# EAGLE library part SMD-TOGGLE-SWITCH-2CH(2X3P-7X3.5MM) (library Seeed-Switch)
311030005
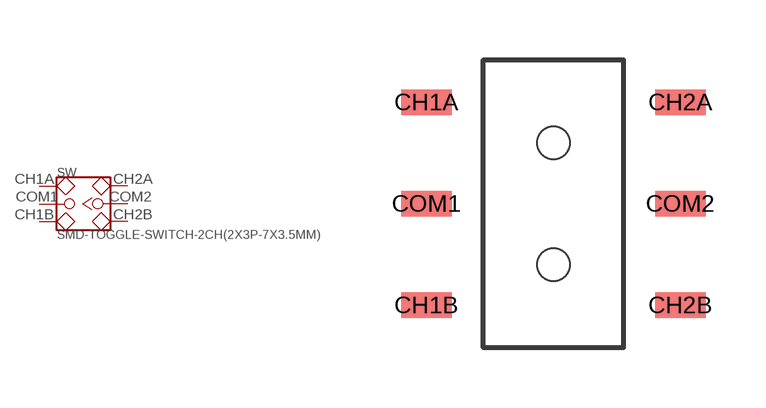
[diagram p2: symbol with the pads of SW6-2.54-SMD-7.0X3.5X1.5MM; footprint SW6-2.54-SMD-7.0X3.5X1.5MM]

Designator prefix SW

## SMD-TOGGLE-SWITCH-2CH(2X3P-7X3.5MM)  [SW6-2.54-SMD-7.0X3.5X1.5MM]
CH1A  CH1A
CH1B  CH1B
CH2A  CH2A
CH2B  CH2B
COM1  COM1
COM2  COM2

## Footprint SW6-2.54-SMD-7.0X3.5X1.5MM (pad centres in mm)
smd 1.27 x 0.635: CH1A -3.175,2.54; CH1B -3.175,-2.54; CH2A 3.175,2.54; CH2B 3.175,-2.54; COM1 -3.175,0; COM2 3.175,0
hole 0.813 at 0,1.524
hole 0.813 at 0,-1.524